# EAGLE library part GSD090144HR (library GSD090144HR)
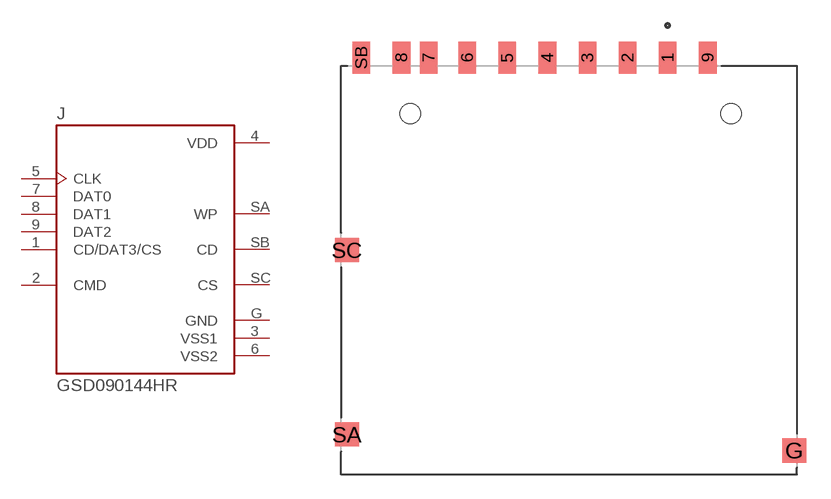
[diagram p0: symbol with the pads of AMPHENOL_GSD090144HR; footprint AMPHENOL_GSD090144HR]

Designator prefix J

## GSD090144HR (Description: Sd Card Connector, Push-push Type, 9 Position.; Digi-Key_Part_Number: 664-GSD090144HRTR-ND; MF: Amphenol ICC (Commercial Products); MP: GSD090144HR; Package: None; Purchase-URL: https://pricing.snapeda.com/search/part/GSD090144HR/?ref=eda)  [AMPHENOL_GSD090144HR]
1  CD/DAT3/CS
2  CMD
3  VSS1  pwr
4  VDD  pwr
5  CLK
6  VSS2  pwr
7  DAT0
8  DAT1
9  DAT2
G  GND  pwr
SA  WP  pas
SB  CD  pas
SC  CS  pas

## Footprint AMPHENOL_GSD090144HR (pad centres in mm)
smd 1.1 x 2: 1 6.85,3.5; 2 4.35,3.5; 3 1.85,3.5; 4 -0.65,3.5; 5 -3.15,3.5; 6 -5.65,3.5; 7 -8.05,3.5; 8 -9.75,3.5; 9 9.35,3.5; SB -12.25,3.5
smd 1.5 x 1.5: G 14.75,-21; SA -13.15,-20; SC -13.15,-8.5
hole 1.25 at -9.2,0
hole 1.25 at 10.8,0